# EAGLE library part IMCV7 (library con-phoenix-381_l)
Invertierter Mini-Combicon 3.81mm vertikal 7-polig IMCV 1,5/7-G-3,81 (ohne Gegenstecker)
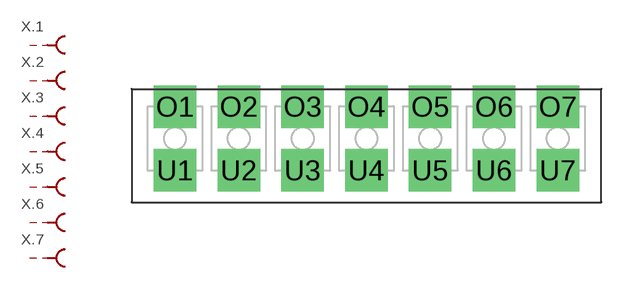
[diagram p32: symbol with the pads of IMCV7; footprint IMCV7]

Designator prefix X; gates .4=MCBU .3=MCBU .2=MCBU .1=MCBU .5=MCBU .6=MCBU .7=MCBU

## IMCV7  [IMCV7]
O1  .1:S  pas
O2  .2:S  pas
O3  .3:S  pas
O4  .4:S  pas
O5  .5:S  pas
O6  .6:S  pas
O7  .7:S  pas
U1  .1:SK  pas
U2  .2:SK  pas
U3  .3:SK  pas
U4  .4:SK  pas
U5  .5:SK  pas
U6  .6:SK  pas
U7  .7:SK  pas

## Footprint IMCV7 (pad centres in mm)
Mini-Combicon 3.81mm vertical 7-polig invertiert (ohne Gegenstecker)
drill 1.3 pad 2.54 square: O1 -11.43,1.905; O2 -7.62,1.905; O3 -3.81,1.905; O4 0,1.905; O5 3.81,1.905; O6 7.62,1.905; O7 11.43,1.905; U1 -11.43,-1.905; U2 -7.62,-1.905; U3 -3.81,-1.905; U4 0,-1.905; U5 3.81,-1.905; U6 7.62,-1.905; U7 11.43,-1.905